# EAGLE library part AD5292 (library tdcs)
AD5292 Digital Potentiometer, 1024 Bit resolution, 2,50,100kOhms
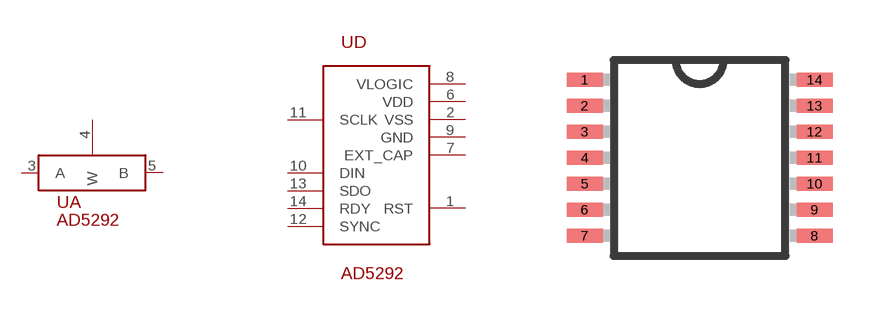
[diagram p1: symbol with the pads of TSSOP14; footprint TSSOP14]

Designator prefix U; gates A=AD5292_A D=AD5292_D

## AD5292  [TSSOP14]
1  D:RST  pas
2  D:VSS  in
3  A:A  pas
4  A:W  pas
5  A:B  pas
6  D:VDD  in
7  D:EXT_CAP  pas
8  D:VLOGIC  in
9  D:GND  in
10  D:DIN
11  D:SCLK
12  D:SYNC
13  D:SDO
14  D:RDY

## Footprint TSSOP14 (pad centres in mm)
14-Lead Thin Shrink Small Outline Package [TSSOP] Source: Analog Devices .. 780914713ADD8704_0.pdf
smd 0.9 x 0.35: 1 -2.875,1.95; 2 -2.875,1.3; 3 -2.875,0.65; 4 -2.875,0; 5 -2.875,-0.65; 6 -2.875,-1.3; 7 -2.875,-1.95; 8 2.875,-1.95; 9 2.875,-1.3; 10 2.875,-0.65; 11 2.875,0; 12 2.875,0.65; 13 2.875,1.3; 14 2.875,1.95